# Altium footprint library 16-SOIC.PcbLib: 1 footprints
Each footprint in its own frame and in the unit in brackets; x right, y up, seen from the top. Pads: shape width x height; smd on the part's side, far side on the other; paste and mask are expansions set on the pad; w line width, h text height; cw(c..) or ccw(c..) is an arc to the next point about the centre after c.
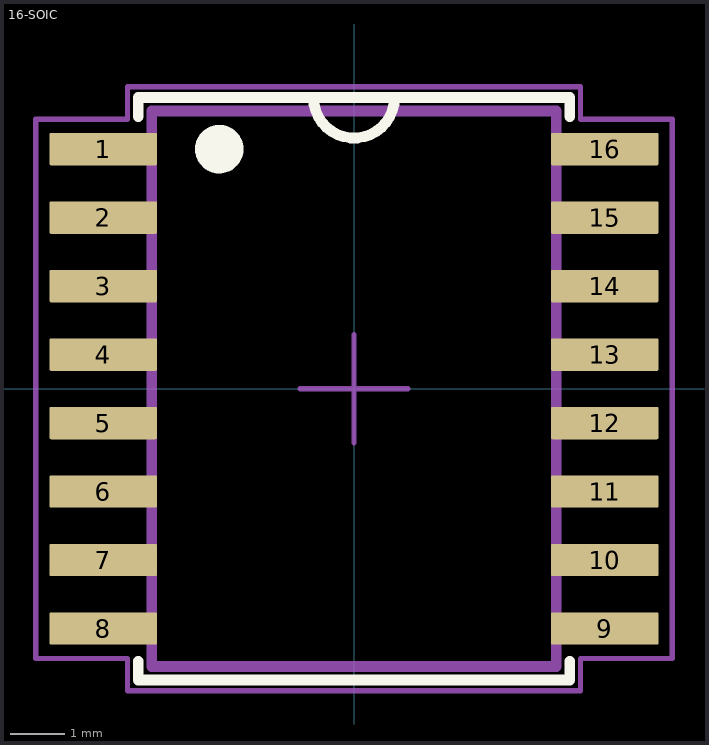
[diagram p0: the footprint, top view; thin cyan lines are the x and y axes]

## 16-SOIC [mm]
pads (16):
  rrect10% 2x0.6 smd: 1(-4.65,4.445) 2(-4.65,3.175) 3(-4.65,1.905) 4(-4.65,0.635) 5(-4.65,-0.635) 6(-4.65,-1.905) 7(-4.65,-3.175) 8(-4.65,-4.445) 9(4.65,-4.445) 10(4.65,-3.175) 11(4.65,-1.905) 12(4.65,-0.635) 13(4.65,0.635) 14(4.65,1.905) 15(4.65,3.175) 16(4.65,4.445)
Top Overlay:
  circle w0.5: c-2.5,4.445 r0.2
  lines w0.2: -4,-5.05 -4,-5.4 4,-5.4 4,-5.05 ; -4,5.05 -4,5.4 4,5.4 4,5.05 ; -0.75,5.4 ccw(c0,5.4) 0.75,5.4
Mechanical 1:
  lines w0.2: -3.75,-5.15 3.75,-5.15 3.75,5.15 -3.75,5.15 -3.75,-5.15
Mechanical 15:
  lines w0.1: -1,0 0,0 ; 0,-1 0,0 ; 0,1 0,0 ; 1,0 0,0 ; -5.9,-5 -5.9,5 -4.2,5 -4.2,5.6 4.2,5.6 4.2,5 5.9,5 5.9,-5 4.2,-5 4.2,-5.6 -4.2,-5.6 -4.2,-5 -5.9,-5
3D body "DW0016A.stp": height 2.59, standoff 0, extent -5.167,-5.15 5.167,5.15